# EAGLE library part MPU6050 (library quadcopter_comp)
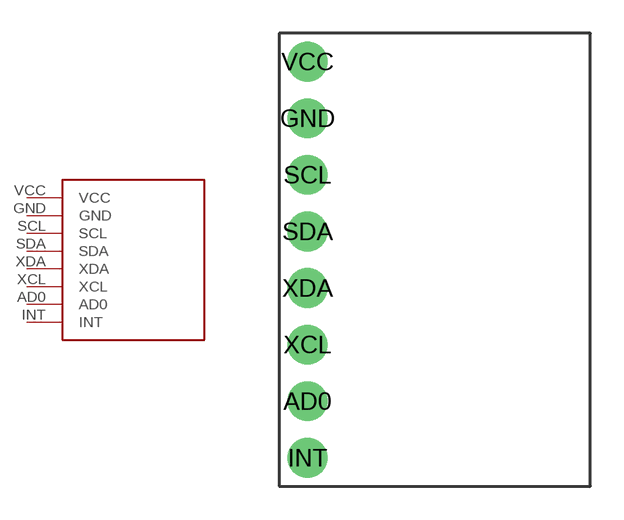
[diagram p10: symbol with the pads of MPU6050; footprint MPU6050]

Designator prefix -

## MPU6050  [MPU6050]
AD0  AD0
GND  GND
INT  INT
SCL  SCL
SDA  SDA
VCC  VCC
XCL  XCL
XDA  XDA

## Footprint MPU6050 (pad centres in mm)
drill 0.8 pad 1.778: AD0 -6.35,-6.35; GND -6.35,6.35; INT -6.35,-8.89; SCL -6.35,3.81; SDA -6.35,1.27; VCC -6.35,8.89; XCL -6.35,-3.81; XDA -6.35,-1.27